# EAGLE library part TXB0104 (library specialparts)
Bidirectional Logic Shifter Adafruit TXB0104 Not suitable for I2C
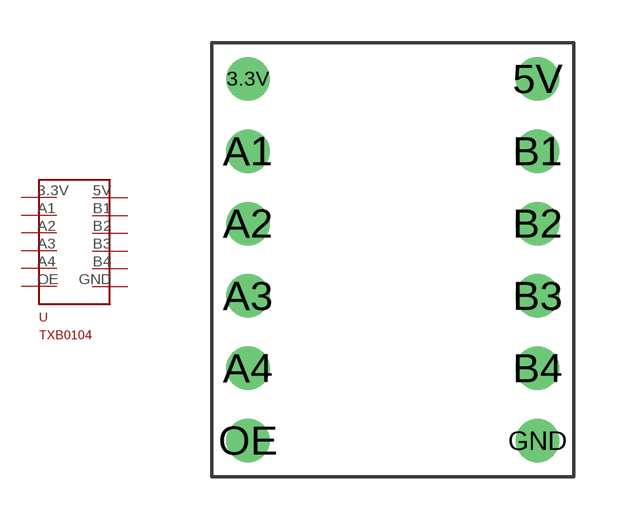
[diagram p2: symbol with the pads of TXB0104; footprint TXB0104]

Designator prefix -

## TXB0104  [TXB0104]
3.3V  3V3
5V  5V
A1  A1
A2  A2
A3  A3
A4  A4
B1  B1
B2  B2
B3  B3
B4  B4
GND  GND
OE  OE

## Footprint TXB0104 (pad centres in mm)
drill 1.016: 3.3V -5.08,12.7; 5V 5.08,12.7; A1 -5.08,10.16; A2 -5.08,7.62; A3 -5.08,5.08; A4 -5.08,2.54; B1 5.08,10.16; B2 5.08,7.62; B3 5.08,5.08; B4 5.08,2.54; GND 5.08,0; OE -5.08,0